# Altium schematic symbol library IC7411.SchLib: 1 symbol
Pins are listed as number, name and electrical type; pins without a type are passive.

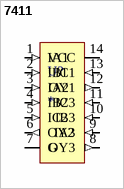
[diagram p0: symbol 7411]

## 7411
designator U?
Three Input AND Gate
footprint IC 7411 (Three Input AND Gate)
pins: 1 IA1 (in) "A Input Gate 1", 2 IB1 (in) "B Input Gate 1", 3 IA2 (in) "A Input Gate 2", 4 IB2 (in) "B Input Gate 2", 5 IC2 (in) "C Input Gate 2", 6 OY2 (out) "Y Output Gate 2", 7 G "Ground", 8 OY3 (out) "Y Output Gate 3", 9 IA3 (in) "A Input Gate 3", 10 IB3 (in) "B Input Gate 3", 11 IC3 (in) "C Input Gate 3", 12 OY1 (out) "Y Output Gate 1", 13 IC1 (in) "C Input Gate 1", 14 VCC (power) "Vcc - Positive Supply"